# Altium footprint library ST Microprocessor 32-Bit.PcbLib: 6 footprints
Each footprint in its own frame and in the unit in brackets; x right, y up, seen from the top. Pads: shape width x height; smd on the part's side, far side on the other; paste and mask are expansions set on the pad; w line width, h text height; cw(c..) or ccw(c..) is an arc to the next point about the centre after c.
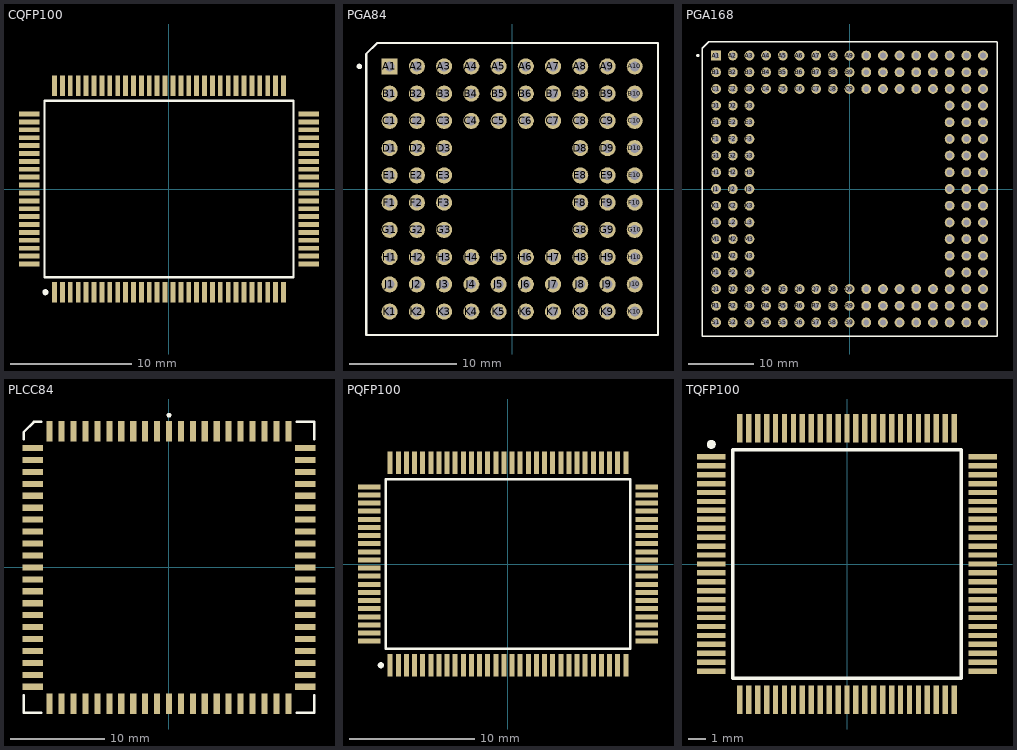
[diagram p0: the footprints below, top view; thin cyan lines are the x and y axes]

## CQFP100 [mm] "QFP, Ceramic; 100 Leads; Body 14 x 20 mm; Pitch 0.65 mm"
height 3.4
pads (100):
  rect 0.4x1.7 smd: 1(-9.425,-8.5) 2(-8.775,-8.5) 3(-8.125,-8.5) 4(-7.475,-8.5) 5(-6.825,-8.5) 6(-6.175,-8.5) 7(-5.525,-8.5) 8(-4.875,-8.5) 9(-4.225,-8.5) 10(-3.575,-8.5) 11(-2.925,-8.5) 12(-2.275,-8.5) 13(-1.625,-8.5) 14(-0.975,-8.5) 15(-0.325,-8.5) 16(0.325,-8.5) 17(0.975,-8.5) 18(1.625,-8.5) 19(2.275,-8.5) 20(2.925,-8.5) 21(3.575,-8.5) 22(4.225,-8.5) 23(4.875,-8.5) 24(5.525,-8.5) 25(6.175,-8.5) 26(6.825,-8.5) 27(7.475,-8.5) 28(8.125,-8.5) 29(8.775,-8.5) 30(9.425,-8.5) 51(9.425,8.5) 52(8.775,8.5) 53(8.125,8.5) 54(7.475,8.5) 55(6.825,8.5) 56(6.175,8.5) 57(5.525,8.5) 58(4.875,8.5) 59(4.225,8.5) 60(3.575,8.5) 61(2.925,8.5) 62(2.275,8.5) 63(1.625,8.5) 64(0.975,8.5) 65(0.325,8.5) 66(-0.325,8.5) 67(-0.975,8.5) 68(-1.625,8.5) 69(-2.275,8.5) 70(-2.925,8.5) 71(-3.575,8.5) 72(-4.225,8.5) 73(-4.875,8.5) 74(-5.525,8.5) 75(-6.175,8.5) 76(-6.825,8.5) 77(-7.475,8.5) 78(-8.125,8.5) 79(-8.775,8.5) 80(-9.425,8.5)
  rect 1.7x0.4 smd: 31(11.5,-6.175) 32(11.5,-5.525) 33(11.5,-4.875) 34(11.5,-4.225) 35(11.5,-3.575) 36(11.5,-2.925) 37(11.5,-2.275) 38(11.5,-1.625) 39(11.5,-0.975) 40(11.5,-0.325) 41(11.5,0.325) 42(11.5,0.975) 43(11.5,1.625) 44(11.5,2.275) 45(11.5,2.925) 46(11.5,3.575) 47(11.5,4.225) 48(11.5,4.875) 49(11.5,5.525) 50(11.5,6.175) 81(-11.5,6.175) 82(-11.5,5.525) 83(-11.5,4.875) 84(-11.5,4.225) 85(-11.5,3.575) 86(-11.5,2.925) 87(-11.5,2.275) 88(-11.5,1.625) 89(-11.5,0.975) 90(-11.5,0.325) 91(-11.5,-0.325) 92(-11.5,-0.975) 93(-11.5,-1.625) 94(-11.5,-2.275) 95(-11.5,-2.925) 96(-11.5,-3.575) 97(-11.5,-4.225) 98(-11.5,-4.875) 99(-11.5,-5.525) 100(-11.5,-6.175)
Top Overlay:
  circle w0.25: c-10.175,-8.5 r0.125
  lines w0.2: -10.25,-7.25 -10.25,7.25 10.25,7.25 10.25,-7.25 -10.25,-7.25

## PGA84 [mm] "PGA; 84 Leads; Body 27 x 27 mm; Plain Grid"
height 5.47
pads (84):
  rect 1.5x1.5 hole 0.9: A1(-11.43,11.43)
  round 1.5 hole 0.9: A2(-8.89,11.43) A3(-6.35,11.43) A4(-3.81,11.43) A5(-1.27,11.43) A6(1.27,11.43) A7(3.81,11.43) A8(6.35,11.43) A9(8.89,11.43) A10(11.43,11.43) B1(-11.43,8.89) B2(-8.89,8.89) B3(-6.35,8.89) B4(-3.81,8.89) B5(-1.27,8.89) B6(1.27,8.89) B7(3.81,8.89) B8(6.35,8.89) B9(8.89,8.89) B10(11.43,8.89) C1(-11.43,6.35) C2(-8.89,6.35) C3(-6.35,6.35) C4(-3.81,6.35) C5(-1.27,6.35) C6(1.27,6.35) C7(3.81,6.35) C8(6.35,6.35) C9(8.89,6.35) C10(11.43,6.35) D1(-11.43,3.81) D2(-8.89,3.81) D3(-6.35,3.81) D8(6.35,3.81) D9(8.89,3.81) D10(11.43,3.81) E1(-11.43,1.27) E2(-8.89,1.27) E3(-6.35,1.27) E8(6.35,1.27) E9(8.89,1.27) E10(11.43,1.27) F1(-11.43,-1.27) F2(-8.89,-1.27) F3(-6.35,-1.27) F8(6.35,-1.27) F9(8.89,-1.27) F10(11.43,-1.27) G1(-11.43,-3.81) G2(-8.89,-3.81) G3(-6.35,-3.81) G8(6.35,-3.81) G9(8.89,-3.81) G10(11.43,-3.81) H1(-11.43,-6.35) H2(-8.89,-6.35) H3(-6.35,-6.35) H4(-3.81,-6.35) H5(-1.27,-6.35) H6(1.27,-6.35) H7(3.81,-6.35) H8(6.35,-6.35) H9(8.89,-6.35) H10(11.43,-6.35) J1(-11.43,-8.89) J2(-8.89,-8.89) J3(-6.35,-8.89) J4(-3.81,-8.89) J5(-1.27,-8.89) J6(1.27,-8.89) J7(3.81,-8.89) J8(6.35,-8.89) J9(8.89,-8.89) J10(11.43,-8.89) K1(-11.43,-11.43) K2(-8.89,-11.43) K3(-6.35,-11.43) K4(-3.81,-11.43) K5(-1.27,-11.43) K6(1.27,-11.43) K7(3.81,-11.43) K8(6.35,-11.43) K9(8.89,-11.43) K10(11.43,-11.43)
Top Overlay:
  circle w0.25: c-14.25,11.43 r0.125
  lines w0.2: -13.6,-13.6 -13.6,12.6 -12.6,13.6 13.6,13.6 13.6,-13.6 -13.6,-13.6

## PGA168 [mm] "PGA; 168 Leads; Body 44.5 x 44.5 mm; Plain Grid"
height 4.72
pads (168):
  rect 1.5x1.5 hole 0.9: A1(-20.32,20.32)
  round 1.5 hole 0.9: A2(-17.78,20.32) A3(-15.24,20.32) A4(-12.7,20.32) A5(-10.16,20.32) A6(-7.62,20.32) A7(-5.08,20.32) A8(-2.54,20.32) A9(0,20.32) A10(2.54,20.32) A11(5.08,20.32) A12(7.62,20.32) A13(10.16,20.32) A14(12.7,20.32) A15(15.24,20.32) A16(17.78,20.32) A17(20.32,20.32) B1(-20.32,17.78) B2(-17.78,17.78) B3(-15.24,17.78) B4(-12.7,17.78) B5(-10.16,17.78) B6(-7.62,17.78) B7(-5.08,17.78) B8(-2.54,17.78) B9(0,17.78) B10(2.54,17.78) B11(5.08,17.78) B12(7.62,17.78) B13(10.16,17.78) B14(12.7,17.78) B15(15.24,17.78) B16(17.78,17.78) B17(20.32,17.78) C1(-20.32,15.24) C2(-17.78,15.24) C3(-15.24,15.24) C4(-12.7,15.24) C5(-10.16,15.24) C6(-7.62,15.24) C7(-5.08,15.24) C8(-2.54,15.24) C9(0,15.24) C10(2.54,15.24) C11(5.08,15.24) C12(7.62,15.24) C13(10.16,15.24) C14(12.7,15.24) C15(15.24,15.24) C16(17.78,15.24) C17(20.32,15.24) D1(-20.32,12.7) D2(-17.78,12.7) D3(-15.24,12.7) D15(15.24,12.7) D16(17.78,12.7) D17(20.32,12.7) E1(-20.32,10.16) E2(-17.78,10.16) E3(-15.24,10.16) E15(15.24,10.16) E16(17.78,10.16) E17(20.32,10.16) F1(-20.32,7.62) F2(-17.78,7.62) F3(-15.24,7.62) F15(15.24,7.62) F16(17.78,7.62) F17(20.32,7.62) G1(-20.32,5.08) G2(-17.78,5.08) G3(-15.24,5.08) G15(15.24,5.08) G16(17.78,5.08) G17(20.32,5.08) H1(-20.32,2.54) H2(-17.78,2.54) H3(-15.24,2.54) H15(15.24,2.54) H16(17.78,2.54) H17(20.32,2.54) J1(-20.32,0) J2(-17.78,0) J3(-15.24,0) J15(15.24,0) J16(17.78,0) J17(20.32,0) K1(-20.32,-2.54) K2(-17.78,-2.54) K3(-15.24,-2.54) K15(15.24,-2.54) K16(17.78,-2.54) K17(20.32,-2.54) L1(-20.32,-5.08) L2(-17.78,-5.08) L3(-15.24,-5.08) L15(15.24,-5.08) L16(17.78,-5.08) L17(20.32,-5.08) M1(-20.32,-7.62) M2(-17.78,-7.62) M3(-15.24,-7.62) M15(15.24,-7.62) M16(17.78,-7.62) M17(20.32,-7.62) N1(-20.32,-10.16) N2(-17.78,-10.16) N3(-15.24,-10.16) N15(15.24,-10.16) N16(17.78,-10.16) N17(20.32,-10.16) P1(-20.32,-12.7) P2(-17.78,-12.7) P3(-15.24,-12.7) P15(15.24,-12.7) P16(17.78,-12.7) P17(20.32,-12.7) Q1(-20.32,-15.24) Q2(-17.78,-15.24) Q3(-15.24,-15.24) Q4(-12.7,-15.24) Q5(-10.16,-15.24) Q6(-7.62,-15.24) Q7(-5.08,-15.24) Q8(-2.54,-15.24) Q9(0,-15.24) Q10(2.54,-15.24) Q11(5.08,-15.24) Q12(7.62,-15.24) Q13(10.16,-15.24) Q14(12.7,-15.24) Q15(15.24,-15.24) Q16(17.78,-15.24) Q17(20.32,-15.24) R1(-20.32,-17.78) R2(-17.78,-17.78) R3(-15.24,-17.78) R4(-12.7,-17.78) R5(-10.16,-17.78) R6(-7.62,-17.78) R7(-5.08,-17.78) R8(-2.54,-17.78) R9(0,-17.78) R10(2.54,-17.78) R11(5.08,-17.78) R12(7.62,-17.78) R13(10.16,-17.78) R14(12.7,-17.78) R15(15.24,-17.78) R16(17.78,-17.78) R17(20.32,-17.78) S1(-20.32,-20.32) S2(-17.78,-20.32) S3(-15.24,-20.32) S4(-12.7,-20.32) S5(-10.16,-20.32) S6(-7.62,-20.32) S7(-5.08,-20.32) S8(-2.54,-20.32) S9(0,-20.32) S10(2.54,-20.32) S11(5.08,-20.32) S12(7.62,-20.32) S13(10.16,-20.32) S14(12.7,-20.32) S15(15.24,-20.32) S16(17.78,-20.32) S17(20.32,-20.32)
Top Overlay:
  circle w0.25: c-23.1,20.32 r0.125
  lines w0.2: -22.45,-22.45 -22.45,21.45 -21.45,22.45 22.45,22.45 22.45,-22.45 -22.45,-22.45

## PLCC84 [mm] "Leaded Chip Carrier; 84 Leads; Body 29.3 x 29.3 mm"
height 5.08
pads (84):
  rect 0.65x2.2 smd: 1(0,14.5) 2(-1.27,14.5) 3(-2.54,14.5) 4(-3.81,14.5) 5(-5.08,14.5) 6(-6.35,14.5) 7(-7.62,14.5) 8(-8.89,14.5) 9(-10.16,14.5) 10(-11.43,14.5) 11(-12.7,14.5) 33(-12.7,-14.5) 34(-11.43,-14.5) 35(-10.16,-14.5) 36(-8.89,-14.5) 37(-7.62,-14.5) 38(-6.35,-14.5) 39(-5.08,-14.5) 40(-3.81,-14.5) 41(-2.54,-14.5) 42(-1.27,-14.5) 43(0,-14.5) 44(1.27,-14.5) 45(2.54,-14.5) 46(3.81,-14.5) 47(5.08,-14.5) 48(6.35,-14.5) 49(7.62,-14.5) 50(8.89,-14.5) 51(10.16,-14.5) 52(11.43,-14.5) 53(12.7,-14.5) 75(12.7,14.5) 76(11.43,14.5) 77(10.16,14.5) 78(8.89,14.5) 79(7.62,14.5) 80(6.35,14.5) 81(5.08,14.5) 82(3.81,14.5) 83(2.54,14.5) 84(1.27,14.5)
  rect 2.2x0.65 smd: 12(-14.5,12.7) 13(-14.5,11.43) 14(-14.5,10.16) 15(-14.5,8.89) 16(-14.5,7.62) 17(-14.5,6.35) 18(-14.5,5.08) 19(-14.5,3.81) 20(-14.5,2.54) 21(-14.5,1.27) 22(-14.5,0) 23(-14.5,-1.27) 24(-14.5,-2.54) 25(-14.5,-3.81) 26(-14.5,-5.08) 27(-14.5,-6.35) 28(-14.5,-7.62) 29(-14.5,-8.89) 30(-14.5,-10.16) 31(-14.5,-11.43) 32(-14.5,-12.7) 54(14.5,-12.7) 55(14.5,-11.43) 56(14.5,-10.16) 57(14.5,-8.89) 58(14.5,-7.62) 59(14.5,-6.35) 60(14.5,-5.08) 61(14.5,-3.81) 62(14.5,-2.54) 63(14.5,-1.27) 64(14.5,0) 65(14.5,1.27) 66(14.5,2.54) 67(14.5,3.81) 68(14.5,5.08) 69(14.5,6.35) 70(14.5,7.62) 71(14.5,8.89) 72(14.5,10.16) 73(14.5,11.43) 74(14.5,12.7)
Top Overlay:
  circle w0.25: c0,16.2 r0.125
  lines w0.25: -15.475,-13.597 -15.475,-15.462 -13.61,-15.462 ; -15.475,13.623 -15.475,14.388 -14.375,15.488 -13.61,15.488 ; 13.61,-15.462 15.475,-15.462 15.475,-13.597 ; 13.61,15.488 15.475,15.488 15.475,13.623

## PQFP100 [mm] "QFP, Plastic; 100 Leads; Body 14 x 20 mm; Pitch 0.65 mm"
height 3.4
pads (100):
  rect 0.4x1.8 smd: 1(-9.425,-8.105) 2(-8.775,-8.105) 3(-8.125,-8.105) 4(-7.475,-8.105) 5(-6.825,-8.105) 6(-6.175,-8.105) 7(-5.525,-8.105) 8(-4.875,-8.105) 9(-4.225,-8.105) 10(-3.575,-8.105) 11(-2.925,-8.105) 12(-2.275,-8.105) 13(-1.625,-8.105) 14(-0.975,-8.105) 15(-0.325,-8.105) 16(0.325,-8.105) 17(0.975,-8.105) 18(1.625,-8.105) 19(2.275,-8.105) 20(2.925,-8.105) 21(3.575,-8.105) 22(4.225,-8.105) 23(4.875,-8.105) 24(5.525,-8.105) 25(6.175,-8.105) 26(6.825,-8.105) 27(7.475,-8.105) 28(8.125,-8.105) 29(8.775,-8.105) 30(9.425,-8.105) 51(9.425,8.105) 52(8.775,8.105) 53(8.125,8.105) 54(7.475,8.105) 55(6.825,8.105) 56(6.175,8.105) 57(5.525,8.105) 58(4.875,8.105) 59(4.225,8.105) 60(3.575,8.105) 61(2.925,8.105) 62(2.275,8.105) 63(1.625,8.105) 64(0.975,8.105) 65(0.325,8.105) 66(-0.325,8.105) 67(-0.975,8.105) 68(-1.625,8.105) 69(-2.275,8.105) 70(-2.925,8.105) 71(-3.575,8.105) 72(-4.225,8.105) 73(-4.875,8.105) 74(-5.525,8.105) 75(-6.175,8.105) 76(-6.825,8.105) 77(-7.475,8.105) 78(-8.125,8.105) 79(-8.775,8.105) 80(-9.425,8.105)
  rect 1.8x0.4 smd: 31(11.105,-6.175) 32(11.105,-5.525) 33(11.105,-4.875) 34(11.105,-4.225) 35(11.105,-3.575) 36(11.105,-2.925) 37(11.105,-2.275) 38(11.105,-1.625) 39(11.105,-0.975) 40(11.105,-0.325) 41(11.105,0.325) 42(11.105,0.975) 43(11.105,1.625) 44(11.105,2.275) 45(11.105,2.925) 46(11.105,3.575) 47(11.105,4.225) 48(11.105,4.875) 49(11.105,5.525) 50(11.105,6.175) 81(-11.105,6.175) 82(-11.105,5.525) 83(-11.105,4.875) 84(-11.105,4.225) 85(-11.105,3.575) 86(-11.105,2.925) 87(-11.105,2.275) 88(-11.105,1.625) 89(-11.105,0.975) 90(-11.105,0.325) 91(-11.105,-0.325) 92(-11.105,-0.975) 93(-11.105,-1.625) 94(-11.105,-2.275) 95(-11.105,-2.925) 96(-11.105,-3.575) 97(-11.105,-4.225) 98(-11.105,-4.875) 99(-11.105,-5.525) 100(-11.105,-6.175)
Top Overlay:
  circle w0.25: c-10.175,-8.105 r0.125
  lines w0.2: -9.8,-6.8 -9.8,6.8 9.8,6.8 9.8,-6.8 -9.8,-6.8

## TQFP100 [mm] "QFP, Thin; 100 Leads; Body 14 x 14 mm; Pitch 0.5 mm"
height 1.6
pads (100):
  rect 1.6x0.3 smd: 1(-7.6,6) 2(-7.6,5.5) 3(-7.6,5) 4(-7.6,4.5) 5(-7.6,4) 6(-7.6,3.5) 7(-7.6,3) 8(-7.6,2.5) 9(-7.6,2) 10(-7.6,1.5) 11(-7.6,1) 12(-7.6,0.5) 13(-7.6,0) 14(-7.6,-0.5) 15(-7.6,-1) 16(-7.6,-1.5) 17(-7.6,-2) 18(-7.6,-2.5) 19(-7.6,-3) 20(-7.6,-3.5) 21(-7.6,-4) 22(-7.6,-4.5) 23(-7.6,-5) 24(-7.6,-5.5) 25(-7.6,-6) 51(7.6,-6) 52(7.6,-5.5) 53(7.6,-5) 54(7.6,-4.5) 55(7.6,-4) 56(7.6,-3.5) 57(7.6,-3) 58(7.6,-2.5) 59(7.6,-2) 60(7.6,-1.5) 61(7.6,-1) 62(7.6,-0.5) 63(7.6,0) 64(7.6,0.5) 65(7.6,1) 66(7.6,1.5) 67(7.6,2) 68(7.6,2.5) 69(7.6,3) 70(7.6,3.5) 71(7.6,4) 72(7.6,4.5) 73(7.6,5) 74(7.6,5.5) 75(7.6,6)
  rect 0.3x1.6 smd: 26(-6,-7.6) 27(-5.5,-7.6) 28(-5,-7.6) 29(-4.5,-7.6) 30(-4,-7.6) 31(-3.5,-7.6) 32(-3,-7.6) 33(-2.5,-7.6) 34(-2,-7.6) 35(-1.5,-7.6) 36(-1,-7.6) 37(-0.5,-7.6) 38(0,-7.6) 39(0.5,-7.6) 40(1,-7.6) 41(1.5,-7.6) 42(2,-7.6) 43(2.5,-7.6) 44(3,-7.6) 45(3.5,-7.6) 46(4,-7.6) 47(4.5,-7.6) 48(5,-7.6) 49(5.5,-7.6) 50(6,-7.6) 76(6,7.6) 77(5.5,7.6) 78(5,7.6) 79(4.5,7.6) 80(4,7.6) 81(3.5,7.6) 82(3,7.6) 83(2.5,7.6) 84(2,7.6) 85(1.5,7.6) 86(1,7.6) 87(0.5,7.6) 88(0,7.6) 89(-0.5,7.6) 90(-1,7.6) 91(-1.5,7.6) 92(-2,7.6) 93(-2.5,7.6) 94(-3,7.6) 95(-3.5,7.6) 96(-4,7.6) 97(-4.5,7.6) 98(-5,7.6) 99(-5.5,7.6) 100(-6,7.6)
Top Overlay:
  circle w0.25: c-7.6,6.7 r0.125
  lines w0.2: -6.4,-6.4 6.4,-6.4 6.4,6.4 -6.4,6.4 -6.4,-6.4